# EAGLE library part PT2* (library score-relay)
Miniature Relay SCHRACK 2 pole 12 A DC- or AC-coil Source: http://www.schrack.com/.. 5823.pdf Socked 78602 Source: http://www.schrack.com/.. 5836.pdf
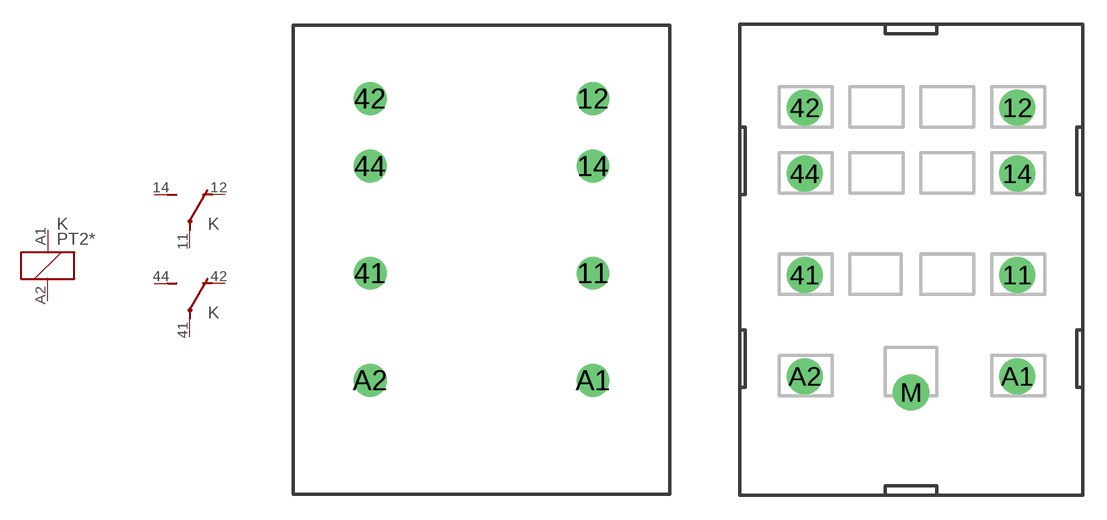
[diagram p123: symbol with the pads of PT-2; footprints PT-2, PT78602]

Designator prefix K; gates 1=K 2=U 3=U

## PT271506 (OC_FARNELL: unknown; OC_NEWARK: unknown), PT271512 (OC_FARNELL: unknown; OC_NEWARK: unknown), PT271524 (OC_FARNELL: unknown; OC_NEWARK: unknown), PT271548 (OC_FARNELL: unknown; OC_NEWARK: unknown), PT271560 (OC_FARNELL: unknown; OC_NEWARK: unknown), PT271615 (MF: TYCO ELECTRONICS; MPN: PT271615; OC_FARNELL: unknown; OC_NEWARK: 96H9720), PT271730 (OC_FARNELL: unknown; OC_NEWARK: unknown), PT271R06 (OC_FARNELL: unknown; OC_NEWARK: unknown), PT271R12 (OC_FARNELL: unknown; OC_NEWARK: unknown), PT271R24 (OC_FARNELL: unknown; OC_NEWARK: unknown), PT271R48 (OC_FARNELL: unknown; OC_NEWARK: unknown), PT271R60 (OC_FARNELL: unknown; OC_NEWARK: unknown), PT271S15 (OC_FARNELL: unknown; OC_NEWARK: unknown), PT271T30 (OC_FARNELL: unknown; OC_NEWARK: unknown), PT281506 (OC_FARNELL: unknown; OC_NEWARK: unknown), PT281512 (OC_FARNELL: unknown; OC_NEWARK: unknown), PT281524 (OC_FARNELL: unknown; OC_NEWARK: unknown), PT281548 (OC_FARNELL: unknown; OC_NEWARK: unknown), PT281560 (OC_FARNELL: unknown; OC_NEWARK: unknown), PT281615 (OC_FARNELL: unknown; OC_NEWARK: unknown), PT281730 (OC_FARNELL: unknown; OC_NEWARK: unknown), PT281R06 (OC_FARNELL: unknown; OC_NEWARK: unknown), PT281R12 (OC_FARNELL: unknown; OC_NEWARK: unknown), PT281R24 (OC_FARNELL: unknown; OC_NEWARK: unknown), PT281R48 (OC_FARNELL: unknown; OC_NEWARK: unknown), PT281R60 (OC_FARNELL: unknown; OC_NEWARK: unknown), PT281S15 (OC_FARNELL: unknown; OC_NEWARK: unknown), PT281T30 (OC_FARNELL: unknown; OC_NEWARK: unknown)  [PT-2]
11  2:P  pas
12  2:O  pas
14  2:S  pas
41  3:P  pas
42  3:O  pas
44  3:S  pas
A1  1:1  pas
A2  1:2  pas

## PT2-78602 (OC_FARNELL: unknown; OC_NEWARK: unknown)  [PT78602]
Pads as for PT-2

## Footprint PT-2 (pad centres in mm)
Miniature Relay SCHRACK 2 pole 12 A DC- or AC-coil Source: http://www.schrack.com/.. 5823.pdf
drill 1.3: 11 6.6,6.35; 12 6.6,16.7; 14 6.6,12.7; 41 -6.6,6.35; 42 -6.6,16.7; 44 -6.6,12.7; A1 6.6,0; A2 -6.6,0

## Footprint PT78602 (pad centres in mm)
Accessories Miniature Relay PT SCHRACK Socket with PCB terminals 2 Pol. Source: http://www.schrack.com/.. 5836.pdf
drill 1.5: 11 6.6,6.3; 12 6.6,16.7; 14 6.6,12.6; 41 -6.6,6.3; 42 -6.6,16.7; 44 -6.6,12.6; A1 6.6,0; A2 -6.6,0; M 0,-1